# Altium footprint library Radar.PcbLib: 7 footprints
Each footprint in its own frame and in the unit in brackets; x right, y up, seen from the top. Pads: shape width x height; smd on the part's side, far side on the other; paste and mask are expansions set on the pad; w line width, h text height; cw(c..) or ccw(c..) is an arc to the next point about the centre after c.
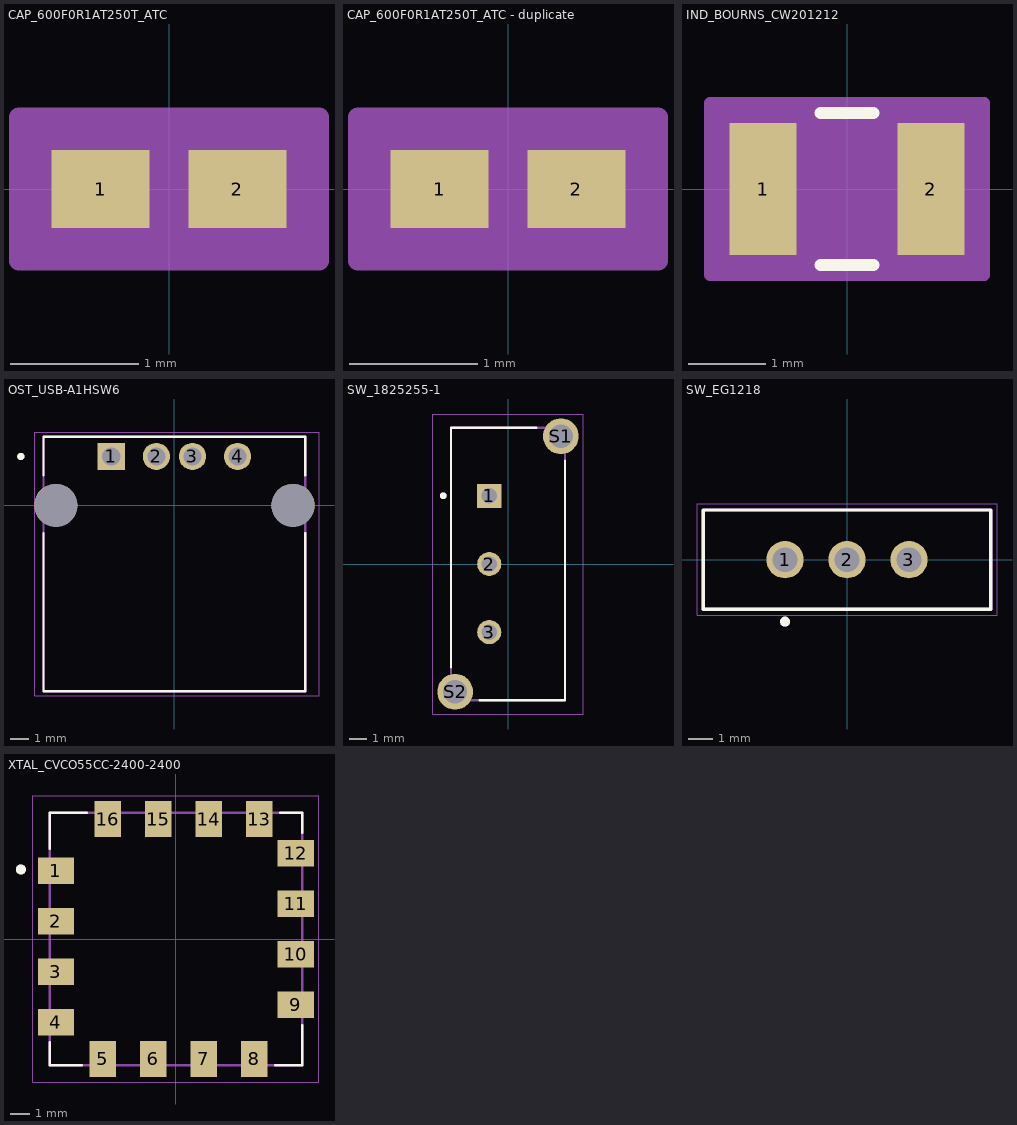
[diagram p0: the footprints below, top view; thin cyan lines are the x and y axes]

## CAP_600F0R1AT250T_ATC [mil]
pads (2):
  rect 30x24 smd paste+0 mask+0: 1(-21,0) 2(21,0)
Mechanical 13:
  lines w1: -22,-12 -22,12 ; -22,-12 -6,-12 -6,12 -22,12 ; -22,-12 22,-12 ; -22,-12 -22,12 ; -22,12 22,12 ; 22,-12 6,-12 6,12 22,12 ; 22,-12 22,12 ; 22,-12 22,12
Mechanical 15:
  region: 46,-22 -46,-22 -46,22 46,22
  lines w6: -46,-22 -46,22 46,22 46,-22 -46,-22
3D body "CAP_600F0R1AT250T_ATC.step": height 24.02, standoff 0, extent -22.01,-12.01 22.01,12.01

## CAP_600F0R1AT250T_ATC - duplicate [mil]
pads (2):
  rect 30x24 smd paste+0 mask+0: 1(-21,0) 2(21,0)
Mechanical 13:
  lines w1: -22,-12 -22,12 ; -22,-12 -6,-12 -6,12 -22,12 ; -22,-12 22,-12 ; -22,-12 -22,12 ; -22,12 22,12 ; 22,-12 6,-12 6,12 22,12 ; 22,-12 22,12 ; 22,-12 22,12
Mechanical 15:
  region: 46,-22 -46,-22 -46,22 46,22
  lines w6: -46,-22 -46,22 46,22 46,-22 -46,-22
3D body "CAP_600F0R1AT250T_ATC.step": height 24.02, standoff 0, extent -22.01,-12.01 22.01,12.01

## IND_BOURNS_CW201212 [mil]
pads (2):
  rect 34x67 smd paste+0 mask+0: 1(-42.5,0) 2(42.5,0)
Top Overlay:
  lines w6: -13.39,-38.5 13.39,-38.5 ; -13.39,38.5 13.39,38.5
Mechanical 13:
  lines w1: -45.5,-33.5 -45.5,33.5 ; -45.5,-33.5 45.5,-33.5 ; -45.5,-33.5 -25.5,-33.5 -25.5,33.5 -45.5,33.5 ; -45.5,-33.5 -45.5,33.5 ; -45.5,33.5 45.5,33.5 ; 45.5,-33.5 45.5,33.5 ; 45.5,-33.5 45.5,33.5 ; 45.5,-33.5 25.5,-33.5 25.5,33.5 45.5,33.5
Mechanical 15:
  region: 69.5,-43.5 -69.5,-43.5 -69.5,43.5 69.5,43.5
  lines w6: -69.5,-43.5 69.5,-43.5 69.5,43.5 -69.5,43.5 -69.5,-43.5
3D body "IND_BOURNS_CW201212.step": height 59.02, standoff 0, extent -45.51,-33.5 45.51,33.5

## OST_USB-A1HSW6 [mm]
height 7.1
pads (6):
  rect 1.508x1.508 / inner round 1.508 / far side rect 1.508x1.508 hole 1: 1(-3.5,2.71)
  round 1.508 hole 1: 2(-1,2.71) 3(1,2.71) 4(3.5,2.71)
  round 2.38 hole 2.38 unplated: ""(-6.57,0) ""(6.57,0)
Top Overlay:
  circle w0.2: c-8.51,2.71 r0.1
  lines w0.127: -7.25,-1.55 -7.25,-10.3 7.25,-10.3 7.25,-1.55 ; -7.25,1.65 -7.25,3.8 7.25,3.8 7.25,1.65
Mechanical 13:
  circle w0.2: c-8.51,2.71 r0.1
  lines w0.127: -7.25,-10.3 7.25,-10.3 7.25,3.8 -7.25,3.8 -7.25,-10.3
Mechanical 15:
  lines w0.05: -7.747,-10.55 -7.747,4.05 8.01,4.05 8.01,-10.55 -7.747,-10.55
3D body "USB-A1HSW6.STEP": height 7.6, standoff -3.2, extent -7.9,-10.287 7.9,3.813

## SW_1825255-1 [mm]
height 12
pads (5):
  rect 1.41x1.41 / inner round 1.41 / far side rect 1.41x1.41 hole 0.902 mask+0.102: 1(-1.1,4)
  round 1.41 hole 0.902 mask+0.102: 2(-1.1,0) 3(-1.1,-4)
  round 2.103 hole 1.402 mask+0.102: S1(3.1,7.5) S2(-3.1,-7.5)
Top Overlay:
  circle w0.2: c-3.8,4 r0.1
  lines w0.127: -3.35,-6.08 -3.35,8 1.68,8 ; -1.68,-8 3.35,-8 3.35,6.08
Mechanical 13:
  circle w0.2: c-3.8,4 r0.1
  lines w0.127: -3.35,-8 -3.35,8 3.35,8 3.35,-8 -3.35,-8
Mechanical 15:
  lines w0.05: -4.402,-8.803 -4.402,8.803 4.402,8.803 4.402,-8.803 -4.402,-8.803
3D body "step_temp.STEP": height 13.06, standoff -2.44, extent -3.35,-8 3.35,8

## SW_EG1218 [mm]
pads (3):
  round 1.508 hole 1 mask+0.102: 1(-2.5,0) 2(0,0) 3(2.5,0)
Top Overlay:
  circle w0.2: c-2.5,-2.5 r0.1
  lines w0.127: -5.8,-2 -5.8,2 5.8,2 5.8,-2 -5.8,-2
Mechanical 13:
  circle w0.2: c-2.5,-2.5 r0.1
  lines w0.127: -5.8,-2 -5.8,2 5.8,2 5.8,-2 -5.8,-2
Mechanical 15:
  lines w0.05: -6.05,-2.25 -6.05,2.25 6.05,2.25 6.05,-2.25 -6.05,-2.25
3D body "step_temp.STEP": height 7, standoff -5.1, extent -5.8,-2 5.8,2

## XTAL_CVCO55CC-2400-2400 [mm]
pads (16):
  rect 1.83x1.33 smd: 1(-6.04,3.429) 2(-6.04,0.889) 3(-6.04,-1.651) 4(-6.04,-4.191) 9(6.04,-3.302) 10(6.04,-0.762) 11(6.04,1.778) 12(6.04,4.318)
  rect 1.33x1.83 smd: 5(-3.683,-6.04) 6(-1.143,-6.04) 7(1.397,-6.04) 8(3.937,-6.04) 13(4.191,6.04) 14(1.651,6.04) 15(-0.889,6.04) 16(-3.429,6.04)
Top Overlay:
  circle w0.3: c-7.8,3.5 r0.1
  lines w0.127: -6.35,-5.2 -6.35,-6.35 -4.75,-6.35 ; -6.35,4.55 -6.35,6.35 -4.5,6.35 ; 5,-6.35 6.35,-6.35 6.35,-4.35 ; 5.25,6.35 6.35,6.35 6.35,5.35
Mechanical 13:
  circle w0.3: c-7.8,3.5 r0.1
  lines w0.127: -6.35,-6.35 -6.35,6.35 6.35,6.35 6.35,-6.35 -6.35,-6.35
Mechanical 15:
  lines w0.05: -7.205,-7.205 7.205,-7.205 7.205,7.205 -7.205,7.205 -7.205,-7.205
3D body "CVCO55CC-2328-2536.stp": height 5.59, standoff -0.01, extent -6.35,-6.35 6.35,6.35